# Altium schematic symbol library SCH - POWER - SWITCHMODE - TI TPS61086DRC.SchLib: 1 symbol
Pins are listed as number, name and electrical type; pins without a type are passive.

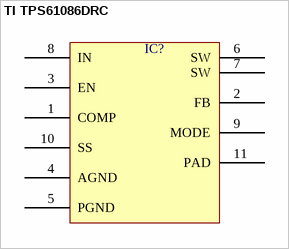
[diagram p0: symbol TI TPS61086DRC]

## TI TPS61086DRC
designator IC?  (value not drawn)
pins: 1 COMP, 2 FB, 3 EN, 4 AGND, 5 PGND, 6 SW, 7 SW, 8 IN, 9 MODE, 10 SS, 11 PAD